# Altium footprint library A_HDJ_Library.PcbLib: 42 footprints (part 2 of 3)
Each footprint in its own frame and in the unit in brackets; x right, y up, seen from the top. Pads: shape width x height; smd on the part's side, far side on the other; paste and mask are expansions set on the pad; w line width, h text height; cw(c..) or ccw(c..) is an arc to the next point about the centre after c.
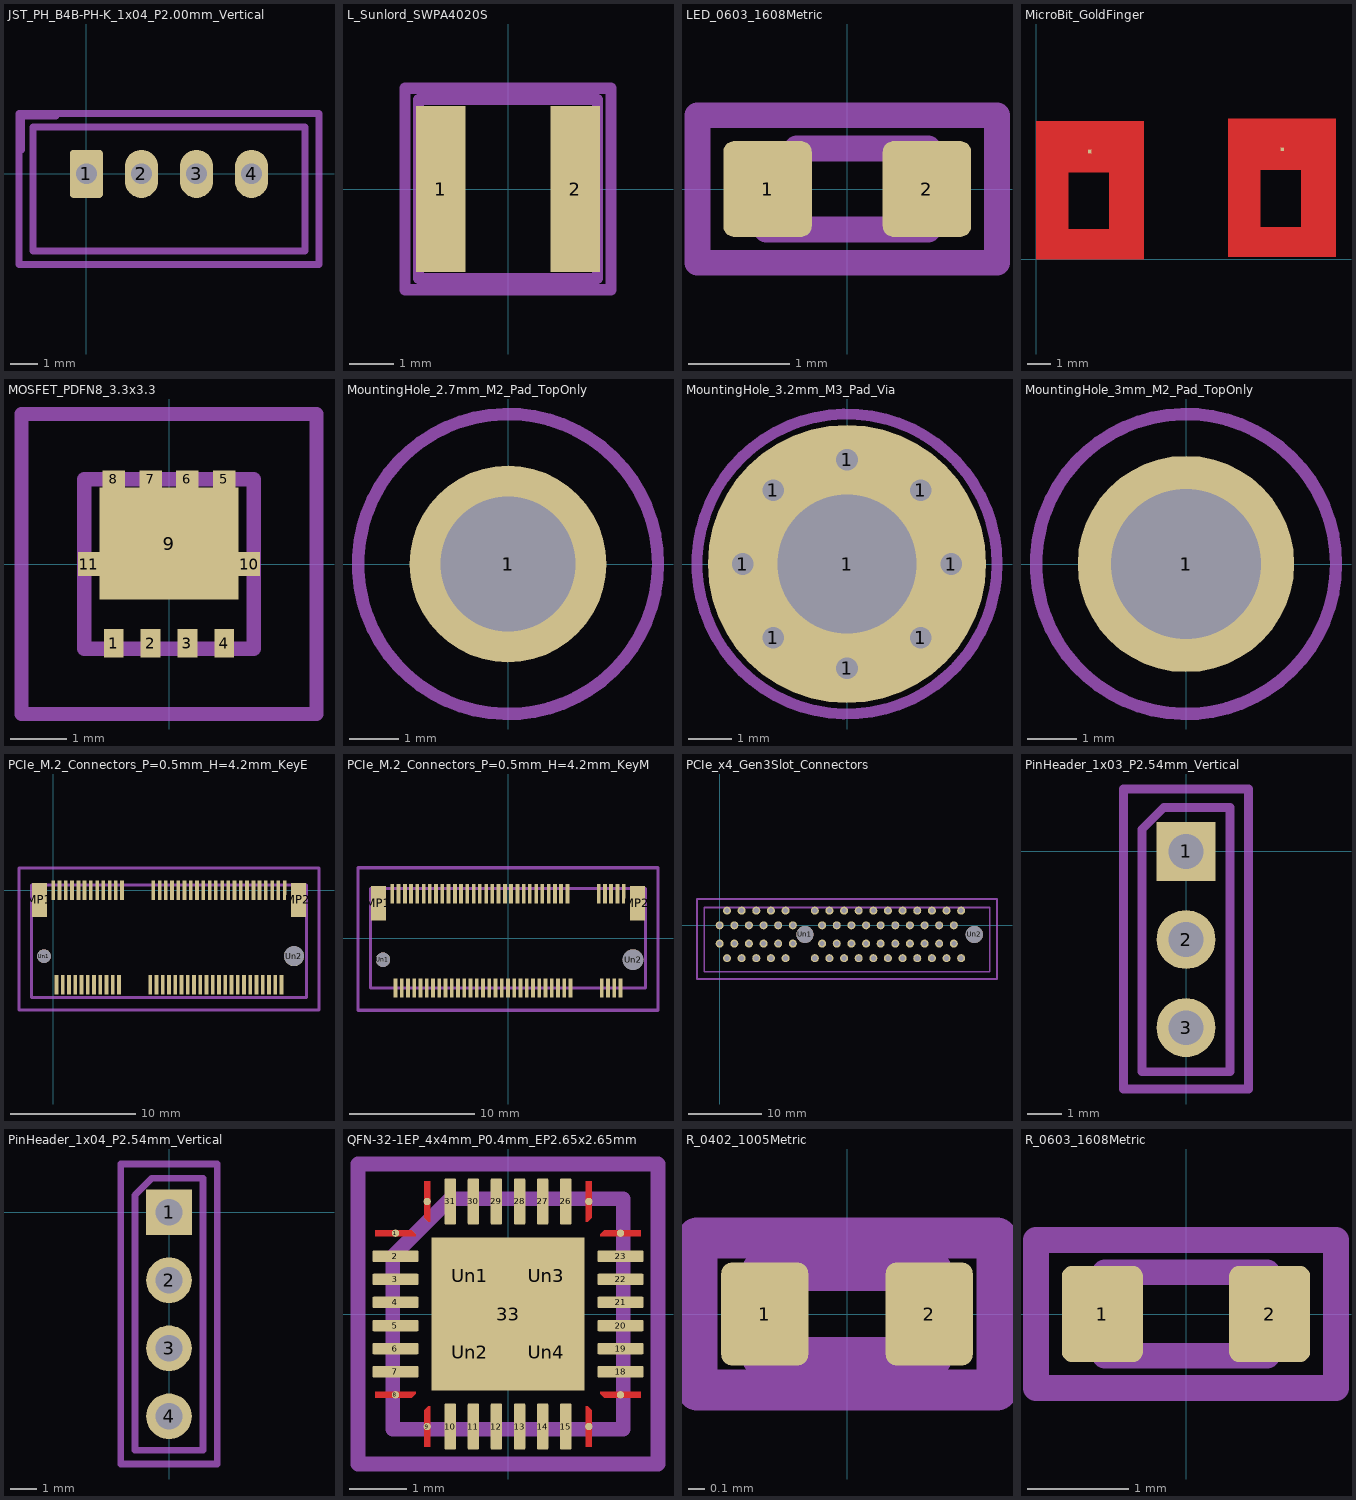
[diagram p1: the footprints below, top view; thin cyan lines are the x and y axes]

## JST_PH_B4B-PH-K_1x04_P2.00mm_Vertical [mm]
pads (4):
  rrect21% 1.2x1.75 hole 0.75: 1(0,0)
  rrect100% 1.2x1.75 hole 0.75: 2(2,0) 3(4,0) 4(6,0)
F.SilkS:
  lines w0.254: -2.36,0.86 -2.36,2.11 -1.11,2.11 ; -2.06,-0.8 -1.45,-0.8 ; -2.06,0.5 -1.45,0.5 ; -0.6,1.81 -0.6,2.01 -0.3,2.01 -0.3,1.81 ; -0.6,1.91 -0.3,1.91 ; 0.5,1.81 0.5,1.2 -1.45,1.2 -1.45,-2.3 7.45,-2.3 7.45,1.2 5.5,1.2 5.5,1.81 ; 0.9,-2.3 0.9,-1.8 1.1,-1.8 1.1,-2.3 ; 1,-2.3 1,-1.8 ; 2.9,-2.3 2.9,-1.8 3.1,-1.8 3.1,-2.3 ; 3,-2.3 3,-1.8 ; 4.9,-2.3 4.9,-1.8 5.1,-1.8 5.1,-2.3 ; 5,-2.3 5,-1.8 ; 7.45,-0.8 8.06,-0.8 ; 7.45,0.5 8.06,0.5 ; -2.06,-2.91 -2.06,1.81 8.06,1.81 8.06,-2.91 -2.06,-2.91
F.Fab:
  lines w0.254: -2.36,0.86 -2.36,2.11 -1.11,2.11 ; -1.95,-2.8 -1.95,1.7 7.95,1.7 7.95,-2.8 -1.95,-2.8
  text "'.Designator'" at 1.56,-1.899 h1
F.CrtYd:
  lines w0.254: -2.45,-3.3 -2.45,2.2 8.45,2.2 8.45,-3.3 -2.45,-3.3

## L_Sunlord_SWPA4020S [mm]
pads (2):
  rect 1.1x3.7 smd: 1(-1.5,0) 2(1.5,0)
F.SilkS:
  lines w0.254: -2.26,-2.11 -2.26,-2.26 2.26,-2.26 2.26,-2.11 ; -2.26,2.11 -2.26,2.26 2.26,2.26 2.26,2.11
F.Fab:
  lines w0.254: -2,-2 -2,2 2,2 2,-2 -2,-2
  text "'.Designator'" at -0.72,-0.2 h0.5
F.CrtYd:
  lines w0.254: -2.3,-2.25 -2.3,2.25 2.3,2.25 2.3,-2.25 -2.3,-2.25

## LED_0603_1608Metric [mm]
pads (2):
  rrect25% 0.875x0.95 smd: 1(-0.787,0) 2(0.787,0)
F.SilkS:
  lines w0.254: 0.8,-0.735 -1.485,-0.735 -1.485,0.735 0.8,0.735 ; -0.29,-0.02 0.21,0.33 0.21,-0.37 -0.29,-0.02
F.Fab:
  lines w0.254: -0.8,-0.4 -0.8,0.1 -0.5,0.4 0.8,0.4 0.8,-0.4 -0.8,-0.4
  text "'.Designator'" at -0.575,-0.159 h0.4
F.CrtYd:
  lines w0.254: -1.48,-0.73 -1.48,0.73 1.48,0.73 1.48,-0.73 -1.48,-0.73

## MicroBit_GoldFinger [mm]
pads (2):
  rect 0.15x0.15 smd: 0(2.3,4.6) 0(10.5,4.7)
F.Cu:
  region: 4.6,0 0,0 0,3.7 0,5.9 4.6,5.9 hole: 3.1,3.7 1.4,3.7 1.4,1.3 3.1,1.3
  region: 12.8,0.1 8.2,0.1 8.2,3.8 8.2,6 12.8,6 hole: 11.3,3.8 9.6,3.8 9.6,1.4 11.3,1.4
  text "1" at 10.428,1.845 h2
  text "0" at 2.059,1.729 h2
F.Mask:
  region: 4.6,0 0,0 0,3.7 0,5.9 4.6,5.9 hole: 3.1,3.7 1.4,3.7 1.4,1.3 3.1,1.3
  region: 12.8,0.1 8.2,0.1 8.2,3.8 8.2,6 12.8,6 hole: 11.3,3.8 9.6,3.8 9.6,1.4 11.3,1.4
  text "1" at 10.428,1.845 h2
  text "0" at 2.059,1.729 h2
F.Fab:
  text "'.Designator'" at -1.44,-2.899 h1

## MOSFET_PDFN8_3.3x3.3 [mm]
pads (11):
  rect 0.35x0.5 smd: 1(-0.975,-1.4) 2(-0.325,-1.4) 3(0.325,-1.4) 4(0.975,-1.4)
  rect 0.4x0.3 smd: 5(0.975,1.5) 6(0.325,1.5) 7(-0.325,1.5) 8(-0.975,1.5)
  rect 2.45x1.98 smd: 9(0,0.36)
  rect 0.38x0.43 smd: 10(1.415,0) 11(-1.415,0)
F.SilkS:
  lines w0.254: -0.975,-2.2 ccw(c-0.975,-2.15) -0.975,-2.1 ccw(c-0.975,-2.15) -0.975,-2.2
F.Fab:
  lines w0.254: -1.5,-1.5 -1.5,1.5 1.5,1.5 1.5,-1.5 -1.5,-1.5
  text "'.Designator'" at -1.826,-0.506 h1.27
F.CrtYd:
  lines w0.254: -2.605,-2.65 -2.605,2.65 2.605,2.65 2.605,-2.65 -2.605,-2.65

## MountingHole_2.7mm_M2_Pad_TopOnly [mm]
pads (2):
  round 2.9 hole 2.75: 1(0,0)
  round 4 smd: 1(0,0)
Cmts.User:
  circle w0.254: c0,0 r2.8
F.Fab:
  text "'.Designator'" at -1.44,-0.399 h1
F.CrtYd:
  circle w0.254: c0,0 r3.05

## MountingHole_3.2mm_M3_Pad_Via [mm]
pads (9):
  round 0.8 hole 0.5: 1(-2.4,0) 1(-1.697,-1.697) 1(-1.697,1.697) 1(0,-2.4) 1(0,2.4) 1(1.697,-1.697) 1(1.697,1.697) 1(2.4,0)
  round 6.4 hole 3.2: 1(0,0)
Cmts.User:
  circle w0.254: c0,0 r3.2
F.Fab:
  text "'.Designator'" at -1.44,-0.399 h1
F.CrtYd:
  circle w0.254: c0,0 r3.45

## MountingHole_3mm_M2_Pad_TopOnly [mm]
pads (2):
  round 3.2 hole 3.05: 1(0,0)
  round 4.4 smd: 1(0,0)
Cmts.User:
  circle w0.254: c0,0 r2.8
F.Fab:
  text "'.Designator'" at -1.44,-2.899 h1
F.CrtYd:
  circle w0.254: c0,0 r3.05

## PCIe_M.2_Connectors_P=0.5mm_H=4.2mm_KeyE [mm]
pads (71):
  rect 0.3x1.55 smd: 1(0,0) 2(0.25,-7.55) 3(0.5,0) 4(0.75,-7.55) 5(1,0) 6(1.25,-7.55) 7(1.5,0) 8(1.75,-7.55) 9(2,0) 10(2.25,-7.55) 11(2.5,0) 12(2.75,-7.55) 13(3,0) 14(3.25,-7.55) 15(3.5,0) 16(3.75,-7.55) 17(4,0) 18(4.25,-7.55) 19(4.5,0) 20(4.75,-7.55) 21(5,0) 22(5.25,-7.55) 23(5.5,0) 32(7.75,-7.55) 33(8,0) 34(8.25,-7.55) 35(8.5,0) 36(8.75,-7.55) 37(9,0) 38(9.25,-7.55) 39(9.5,0) 40(9.75,-7.55) 41(10,0) 42(10.25,-7.55) 43(10.5,0) 44(10.75,-7.55) 45(11,0) 46(11.25,-7.55) 47(11.5,0) 48(11.75,-7.55) 49(12,0) 50(12.25,-7.55) 51(12.5,0) 52(12.75,-7.55) 53(13,0) 54(13.25,-7.55) 55(13.5,0) 56(13.75,-7.55) 57(14,0) 58(14.25,-7.55) 59(14.5,0) 60(14.75,-7.55) 61(15,0) 62(15.25,-7.55) 63(15.5,0) 64(15.75,-7.55) 65(16,0) 66(16.25,-7.55) 67(16.5,0) 68(16.75,-7.55) 69(17,0) 70(17.25,-7.55) 71(17.5,0) 72(17.75,-7.55) 73(18,0) 74(18.25,-7.55) 75(18.5,0)
  rect 1.2x2.75 smd: MP1(-1.1,-0.775) MP2(19.6,-0.775)
  round 1.1 hole 1.1: Un1(-0.75,-5.275)
  round 1.6 hole 1.6: Un2(19.25,-5.275)
F.SilkS:
  lines w0.254: -1.75,-8.575 -1.75,-2.825 -1.75,-8.575 ; -1.75,-8.575 -0.5,-8.575 -1.75,-8.575 ; -0.05,1.425 cw(c0,1.425) 0.05,1.425 ; -0.05,1.425 ccw(c0,1.425) 0.05,1.425 ; -0.05,1.425 ccw(c0,1.425) 0.05,1.425 ; 20.25,-8.575 19,-8.575 20.25,-8.575 ; 20.25,-8.575 20.25,-2.825 20.25,-8.575
F.Fab:
  lines w0.254: -1.75,-8.575 -1.75,0.425 20.25,0.425 20.25,-8.575 -1.75,-8.575
  text "'.Designator'" at 7.424,-4.406 h1.27
F.CrtYd:
  lines w0.254: -2.75,-9.575 -2.75,1.775 21.25,1.775 21.25,-9.575 -2.75,-9.575

## PCIe_M.2_Connectors_P=0.5mm_H=4.2mm_KeyM [mm]
pads (71):
  rect 0.3x1.55 smd: 1(-9.25,3.575) 2(-9,-3.975) 3(-8.75,3.575) 4(-8.5,-3.975) 5(-8.25,3.575) 6(-8,-3.975) 7(-7.75,3.575) 8(-7.5,-3.975) 9(-7.25,3.575) 10(-7,-3.975) 11(-6.75,3.575) 12(-6.5,-3.975) 13(-6.25,3.575) 14(-6,-3.975) 15(-5.75,3.575) 16(-5.5,-3.975) 17(-5.25,3.575) 18(-5,-3.975) 19(-4.75,3.575) 20(-4.5,-3.975) 21(-4.25,3.575) 22(-4,-3.975) 23(-3.75,3.575) 24(-3.5,-3.975) 25(-3.25,3.575) 26(-3,-3.975) 27(-2.75,3.575) 28(-2.5,-3.975) 29(-2.25,3.575) 30(-2,-3.975) 31(-1.75,3.575) 32(-1.5,-3.975) 33(-1.25,3.575) 34(-1,-3.975) 35(-0.75,3.575) 36(-0.5,-3.975) 37(-0.25,3.575) 38(0,-3.975) 39(0.25,3.575) 40(0.5,-3.975) 41(0.75,3.575) 42(1,-3.975) 43(1.25,3.575) 44(1.5,-3.975) 45(1.75,3.575) 46(2,-3.975) 47(2.25,3.575) 48(2.5,-3.975) 49(2.75,3.575) 50(3,-3.975) 51(3.25,3.575) 52(3.5,-3.975) 53(3.75,3.575) 54(4,-3.975) 55(4.25,3.575) 56(4.5,-3.975) 57(4.75,3.575) 58(5,-3.975) 67(7.25,3.575) 68(7.5,-3.975) 69(7.75,3.575) 70(8,-3.975) 71(8.25,3.575) 72(8.5,-3.975) 73(8.75,3.575) 74(9,-3.975) 75(9.25,3.575)
  rect 1.2x2.75 smd: MP1(-10.35,2.8) MP2(10.35,2.8)
  round 1.15 hole 1.15: Un1(-10,-1.7)
  round 1.65 hole 1.65: Un2(10,-1.7)
F.SilkS:
  lines w0.254: -11,1 -11,-3.975 -10,-3.975 ; 10,-4 11,-3.975 11,1 ; -9.3,4.6 cw(c-9.25,4.6) -9.2,4.6 cw(c-9.25,4.6) -9.3,4.6
F.Fab:
  lines w0.254: -11,-3.975 -11,4 11,4 11,-3.975 -11,-3.975
  text "'.Designator'" at -1.826,-0.556 h1.27
F.CrtYd:
  lines w0.254: -12,-5.75 -12,5.65 12,5.65 12,-5.75 -12,-5.75

## PCIe_x4_Gen3Slot_Connectors [mm]
pads (66):
  round 1.1 hole 0.7: A1(0,0) A2(1,2) A3(2,0) A4(3,2) A5(4,0) A6(5,2) A7(6,0) A8(7,2) A9(8,0) A10(9,2) A11(10,0) A12(13,2) A13(14,0) A14(15,2) A15(16,0) A16(17,2) A17(18,0) A18(19,2) A19(20,0) A20(21,2) A21(22,0) A22(23,2) A23(24,0) A24(25,2) A25(26,0) A26(27,2) A27(28,0) A28(29,2) A29(30,0) A30(31,2) A31(32,0) A32(33,2) B1(0,-2.5) B2(1,-4.5) B3(2,-2.5) B4(3,-4.5) B5(4,-2.5) B6(5,-4.5) B7(6,-2.5) B8(7,-4.5) B9(8,-2.5) B10(9,-4.5) B11(10,-2.5) B12(13,-4.5) B13(14,-2.5) B14(15,-4.5) B15(16,-2.5) B16(17,-4.5) B17(18,-2.5) B18(19,-4.5) B19(20,-2.5) B20(21,-4.5) B21(22,-2.5) B22(23,-4.5) B23(24,-2.5) B24(25,-4.5) B25(26,-2.5) B26(27,-4.5) B27(28,-2.5) B28(29,-4.5) B29(30,-2.5) B30(31,-4.5) B31(32,-2.5) B32(33,-4.5)
  round 2.35 hole 2.35: Un1(11.65,-1.25) Un2(34.8,-1.25)
F.SilkS:
  lines w0.254: -2.1,2.45 -2.1,-6.35 36.9,-6.35 36.9,2.25
F.Fab:
  lines w0.254: -2.1,-6.35 -2.1,2.45 36.9,2.45 36.9,-6.35 -2.1,-6.35
  text "'.Designator'" at 15.574,-2.381 h1.27
F.CrtYd:
  lines w0.254: -3.1,-7.35 -3.1,3.6 37.9,3.6 37.9,-7.35 -3.1,-7.35

## PinHeader_1x03_P2.54mm_Vertical [mm]
pads (3):
  rect 1.7x1.7 hole 1: 1(0,0)
  rrect100% 1.7x1.7 hole 1: 2(0,-2.54) 3(0,-5.08)
F.SilkS:
  lines w0.254: -1.33,0 -1.33,1.33 0,1.33 ; -1.33,-6.41 -1.33,-1.27 1.33,-1.27 1.33,-6.41 -1.33,-6.41
F.Fab:
  lines w0.254: -1.27,-6.35 -1.27,0.635 -0.635,1.27 1.27,1.27 1.27,-6.35 -1.27,-6.35
  text "'.Designator'" at 0.399,-3.98 h1
F.CrtYd:
  lines w0.254: -1.8,-6.85 -1.8,1.8 1.8,1.8 1.8,-6.85 -1.8,-6.85

## PinHeader_1x04_P2.54mm_Vertical [mm]
pads (4):
  rect 1.7x1.7 hole 1: 1(0,0)
  rrect100% 1.7x1.7 hole 1: 2(0,-2.54) 3(0,-5.08) 4(0,-7.62)
F.SilkS:
  lines w0.254: -1.33,0 -1.33,1.33 0,1.33 ; -1.33,-8.95 -1.33,-1.27 1.33,-1.27 1.33,-8.95 -1.33,-8.95
F.Fab:
  lines w0.254: -1.27,-8.89 -1.27,0.635 -0.635,1.27 1.27,1.27 1.27,-8.89 -1.27,-8.89
  text "'.Designator'" at 0.399,-5.25 h1
F.CrtYd:
  lines w0.254: -1.8,-9.4 -1.8,1.8 1.8,1.8 1.8,-9.4 -1.8,-9.4

## QFN-32-1EP_4x4mm_P0.4mm_EP2.65x2.65mm [mm]
pads (37):
  round 0.129 smd: 1(-1.95,1.4) 8(-1.95,-1.4) 9(-1.4,-1.95) 16(1.4,-1.95) 17(1.95,-1.4) 24(1.95,1.4) 25(1.4,1.95) 32(-1.4,1.95)
  rrect25% 0.8x0.2 smd: 2(-1.95,1) 3(-1.95,0.6) 4(-1.95,0.2) 5(-1.95,-0.2) 6(-1.95,-0.6) 7(-1.95,-1) 18(1.95,-1) 19(1.95,-0.6) 20(1.95,-0.2) 21(1.95,0.2) 22(1.95,0.6) 23(1.95,1)
  rrect25% 0.2x0.8 smd: 10(-1,-1.95) 11(-0.6,-1.95) 12(-0.2,-1.95) 13(0.2,-1.95) 14(0.6,-1.95) 15(1,-1.95) 26(1,1.95) 27(0.6,1.95) 28(0.2,1.95) 29(-0.2,1.95) 30(-0.6,1.95) 31(-1,1.95)
  rect 2.65x2.65 smd: 33(0,0)
  rrect23% 1.07x1.07 on Mid30: Un1(-0.66,0.66) Un2(-0.66,-0.66) Un3(0.66,0.66) Un4(0.66,-0.66)
F.Cu:
  region: -1.6,1.379 -1.6,1.35 -2.3,1.35 -2.3,1.45 -1.671,1.45
  region: -1.6,-1.379 -1.671,-1.45 -2.3,-1.45 -2.3,-1.35 -1.6,-1.35
  region: -1.35,-2.3 -1.45,-2.3 -1.45,-1.671 -1.379,-1.6 -1.35,-1.6
  region: 1.45,-1.671 1.45,-2.3 1.35,-2.3 1.35,-1.6 1.379,-1.6
  region: 2.3,-1.45 1.671,-1.45 1.6,-1.379 1.6,-1.35 2.3,-1.35
  region: 2.3,1.35 1.6,1.35 1.6,1.379 1.671,1.45 2.3,1.45
  region: 1.45,1.671 1.379,1.6 1.35,1.6 1.35,2.3 1.45,2.3
  region: -1.35,1.6 -1.379,1.6 -1.45,1.671 -1.45,2.3 -1.35,2.3
F.Mask:
  region: -1.6,1.379 -1.6,1.35 -2.3,1.35 -2.3,1.45 -1.671,1.45
  region: -1.6,-1.379 -1.671,-1.45 -2.3,-1.45 -2.3,-1.35 -1.6,-1.35
  region: -1.35,-2.3 -1.45,-2.3 -1.45,-1.671 -1.379,-1.6 -1.35,-1.6
  region: 1.45,-1.671 1.45,-2.3 1.35,-2.3 1.35,-1.6 1.379,-1.6
  region: 2.3,-1.45 1.671,-1.45 1.6,-1.379 1.6,-1.35 2.3,-1.35
  region: 2.3,1.35 1.6,1.35 1.6,1.379 1.671,1.45 2.3,1.45
  region: 1.45,1.671 1.379,1.6 1.35,1.6 1.35,2.3 1.45,2.3
  region: -1.35,1.6 -1.379,1.6 -1.45,1.671 -1.45,2.3 -1.35,2.3
F.SilkS:
  circle w0.254: c-1.935,2.11 r0.252
  region: -1.837,2.347 -1.754,2.291 -1.698,2.208 -1.678,2.11 -1.698,2.012 -1.754,1.929 -1.837,1.873 -1.935,1.853 -2.033,1.873 -2.116,1.929 -2.172,2.012 -2.192,2.11 -2.172,2.208 -2.116,2.291 -2.033,2.347 -1.935,2.367
  lines w0.254: -2.11,-1.76 -2.11,-2.11 -1.76,-2.11 ; -2.11,2.11 -1.76,2.11 ; 1.76,-2.11 2.11,-2.11 2.11,-1.76 ; 1.76,2.11 2.11,2.11 2.11,1.76
F.Paste:
  region: -1.6,1.379 -1.6,1.35 -2.3,1.35 -2.3,1.45 -1.671,1.45
  region: -1.6,-1.379 -1.671,-1.45 -2.3,-1.45 -2.3,-1.35 -1.6,-1.35
  region: -1.35,-2.3 -1.45,-2.3 -1.45,-1.671 -1.379,-1.6 -1.35,-1.6
  region: 1.45,-1.671 1.45,-2.3 1.35,-2.3 1.35,-1.6 1.379,-1.6
  region: 2.3,-1.45 1.671,-1.45 1.6,-1.379 1.6,-1.35 2.3,-1.35
  region: 2.3,1.35 1.6,1.35 1.6,1.379 1.671,1.45 2.3,1.45
  region: 1.45,1.671 1.379,1.6 1.35,1.6 1.35,2.3 1.45,2.3
  region: -1.35,1.6 -1.379,1.6 -1.45,1.671 -1.45,2.3 -1.35,2.3
F.Fab:
  lines w0.254: -2,-2 -2,1 -1,2 2,2 2,-2 -2,-2
  text "'.Designator'" at -1.44,-0.399 h1
F.CrtYd:
  lines w0.254: -2.6,-2.6 -2.6,2.6 2.6,2.6 2.6,-2.6 -2.6,-2.6

## R_0402_1005Metric [mm]
pads (2):
  rrect25% 0.54x0.64 smd: 1(-0.51,0) 2(0.51,0)
F.SilkS:
  region: 0.1,-0.27 -0.1,-0.27 -0.1,0.27 0.1,0.27
  lines w0.254: -0.1,-0.27 -0.1,0.27 0.1,0.27 0.1,-0.27 -0.1,-0.27
F.Fab:
  lines w0.254: -0.525,-0.27 -0.525,0.27 0.525,0.27 0.525,-0.27 -0.525,-0.27
  text "'.Designator'" at -0.374,-0.104 h0.26
F.CrtYd:
  lines w0.254: -0.93,-0.47 -0.93,0.47 0.93,0.47 0.93,-0.47 -0.93,-0.47

## R_0603_1608Metric [mm]
pads (2):
  rrect25% 0.8x0.95 smd: 1(-0.825,0) 2(0.825,0)
F.SilkS:
  lines w0.254: -0.237,-0.523 0.237,-0.523 ; -0.237,0.523 0.237,0.523
F.Fab:
  lines w0.254: -0.8,-0.413 -0.8,0.413 0.8,0.413 0.8,-0.413 -0.8,-0.413
  text "'.Designator'" at -0.575,-0.159 h0.4
F.CrtYd:
  lines w0.254: -1.48,-0.73 -1.48,0.73 1.48,0.73 1.48,-0.73 -1.48,-0.73